# Altium footprint library Voiture-Supercapa.PcbLib: 7 footprints
Each footprint in its own frame and in the unit in brackets; x right, y up, seen from the top. Pads: shape width x height; smd on the part's side, far side on the other; paste and mask are expansions set on the pad; w line width, h text height; cw(c..) or ccw(c..) is an arc to the next point about the centre after c.
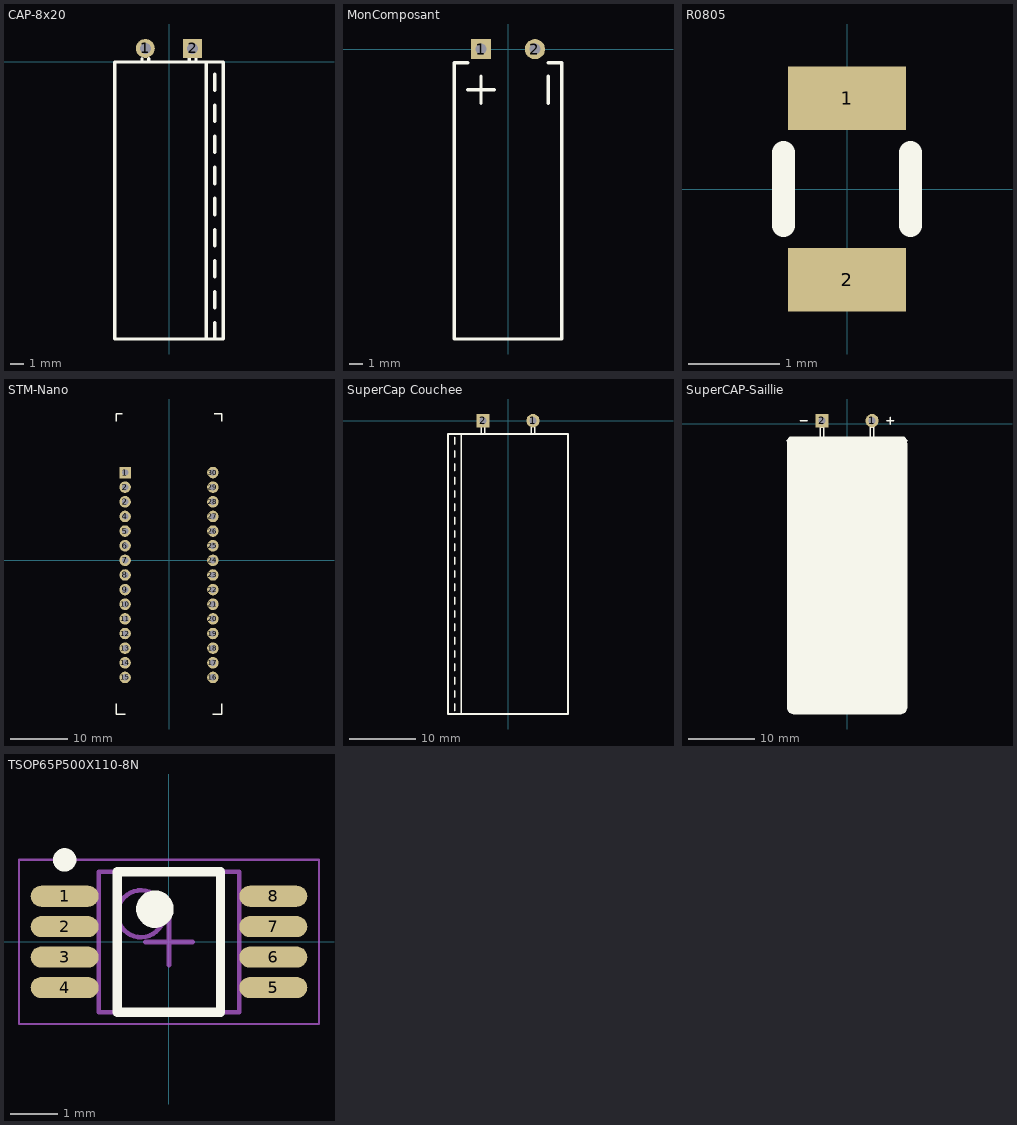
[diagram p0: the footprints below, top view; thin cyan lines are the x and y axes]

## CAP-8x20 [mm]
pads (2):
  round 1.4 hole 0.8: 1(-1.75,1)
  rect 1.4x1.4 hole 0.8: 2(1.75,1)
Top Overlay:
  lines w0.254: -2,0.25 -2,0 -1.5,0 -1.5,0.25 ; 1.5,0.25 1.5,0 2,0 2,0.25 ; 2.75,-20.5 2.75,0 ; 3.4,-20.5 3.4,-19.3 ; 3.4,-18.2 3.4,-17 ; 3.4,-15.9 3.4,-14.7 ; 3.4,-13.6 3.4,-12.4 ; 3.4,-11.3 3.4,-10.1 ; 3.4,-9 3.4,-7.8 ; 3.4,-6.7 3.4,-5.5 ; 3.4,-4.4 3.4,-3.2 ; 3.4,-2.1 3.4,-0.9 ; -4,-20.5 4,-20.5 4,0 -4,0 -4,-20.5
3D body "Cap-8x20-H.step": height 8, standoff -2.5, extent -4,-20.49 3.99,1.31

## MonComposant [mm]
pads (2):
  rect 1.5x1.5 hole 0.8 unplated: 1(-2,0)
  round 1.5 hole 0.8 unplated: 2(2,0)
Top Overlay:
  lines w0.254: -3,-3 -2,-3 ; -3,-1 -4,-1 -4,-21.5 4,-21.5 4,-1 3,-1 ; -2,-2 -2,-4 -2,-3 ; -1,-3 -2,-3 ; 3,-4 3,-2 3,-3
3D body "Cap-8x20-H.step": height 8, standoff -2.5, extent -4,-21.39 3.99,0.41

## R0805 [mm] "Resistor 0805"
pads (2):
  rect 1.3x0.7 smd: 1(0,1) 2(0,-1)
Top Overlay:
  lines w0.254: -0.7,-0.4 -0.7,0.4 ; 0.7,-0.4 0.7,0.4
3D body: height 0.2, standoff 0.1, extent -0.6,-0.9 0.6,0.9
3D body: height 0.18, standoff 0, extent -0.6,-1.1 0.6,1.1

## STM-Nano [mm]
height 12
pads (30):
  rect 2x2 hole 1.1: 1(-7.62,15.24)
  round 2 hole 1.1: 2(-7.62,10.16) 2(-7.62,12.7) 4(-7.62,7.62) 5(-7.62,5.08) 6(-7.62,2.54) 7(-7.62,0) 8(-7.62,-2.54) 9(-7.62,-5.08) 10(-7.62,-7.62) 11(-7.62,-10.16) 12(-7.62,-12.7) 13(-7.62,-15.24) 14(-7.62,-17.78) 15(-7.62,-20.32) 16(7.62,-20.32) 17(7.62,-17.78) 18(7.62,-15.24) 19(7.62,-12.7) 20(7.62,-10.16) 21(7.62,-7.62) 22(7.62,-5.08) 23(7.62,-2.54) 24(7.62,0) 25(7.62,2.54) 26(7.62,5.08) 27(7.62,7.62) 28(7.62,10.16) 29(7.62,12.7) 30(7.62,15.24)
Top Overlay:
  lines w0.254: -9.144,-24.892 -9.144,-26.67 -7.62,-26.67 ; -9.144,24.13 -9.144,25.4 -8.128,25.4 ; 7.62,-26.67 9.144,-26.67 9.144,-24.892 ; 7.874,25.4 9.144,25.4 9.144,24.13
3D body "MB1455.step": height 17.47, standoff -5.03, extent -9.271,-26.67 9.271,25.39

## SuperCap Couchee [mm]
pads (2):
  round 2 hole 1.1: 1(3.75,0)
  rect 2x2 hole 1.1: 2(-3.75,0)
Top Overlay:
  lines w0.254: -8,-43.5 -8,-42.5 ; -8,-41.5 -8,-40.5 ; -8,-39.5 -8,-38.5 ; -8,-37.5 -8,-36.5 ; -8,-35.5 -8,-34.5 ; -8,-33.5 -8,-32.5 ; -8,-31.5 -8,-30.5 ; -8,-29.5 -8,-28.5 ; -8,-27.5 -8,-26.5 ; -8,-25.5 -8,-24.5 ; -8,-23.5 -8,-22.5 ; -8,-21.5 -8,-20.5 ; -8,-19.5 -8,-18.5 ; -8,-17.5 -8,-16.5 ; -8,-15.5 -8,-14.5 ; -8,-13.5 -8,-12.5 ; -8,-11.5 -8,-10.5 ; -8,-9.5 -8,-8.5 ; -8,-7.5 -8,-6.5 ; -8,-5.5 -8,-4.5 ; -8,-3.5 -8,-2.5 ; -7,-2 -7,-44 ; -4,-2 -4,-1 ; -3.5,-2 -3.5,-1 ; 3.5,-2 3.5,-1 ; 4,-2 4,-1 ; -7,-44 9,-44 9,-2 -9,-2 -9,-44 -7,-44
3D body "Modif-Supercapa-50F.step": height 18, standoff -5, extent -8.995,-44 8.995,0.5

## SuperCAP-Saillie [mm]
pads (2):
  round 2 hole 1.1: 1(3.75,0.5)
  rect 2x2 hole 1.1: 2(-3.75,0.5)
Top Overlay:
  pour cut-out: -9,-42.5 -9,-3 -9,-2.902 -8.962,-2.708 -8.886,-2.526 -8.777,-2.363 -8.637,-2.223 -8.474,-2.114 -8.292,-2.038 -8.098,-2 -8,-2 8,-2 8.098,-2 8.292,-2.038 8.474,-2.114 8.637,-2.223 8.777,-2.363 8.886,-2.526 8.962,-2.708 9,-2.902 9,-3 9,-42.5 9,-42.598 8.962,-42.792 8.886,-42.974 8.777,-43.137 8.637,-43.277 8.474,-43.386 8.292,-43.462 8.098,-43.5 8,-43.5 -8,-43.5 -8.098,-43.5 -8.292,-43.462 -8.474,-43.386 -8.637,-43.277 -8.777,-43.137 -8.886,-42.974 -8.962,-42.792 -9,-42.598
  lines w0.254: -9.021,-2.521 -8.5,-2 8.5,-2 9,-2.5 ; -7,0.5 -6,0.5 ; -4.5,-2 -3.5,-2 -3.5,-0.5 -4,-0.5 -4,-2 ; 4,-2 4,-0.5 3.5,-0.5 3.5,-2 4.5,-2 ; 6,0.5 7,0.5 ; 6.5,0 6.5,1
3D body "Modif-Supercapa v1-saillie-rcolor.step": height 12, standoff -6, extent -8.99,-43.64 9,0.86

## TSOP65P500X110-8N [mm] "TSOP, 8-Leads, Body 3,00x2,95mm, Pitch 0,65mm, IPC Medium Density"
height 1.1
pads (8):
  oval 1.45x0.45 smd: 1(-2.225,0.975) 2(-2.225,0.325) 3(-2.225,-0.325) 4(-2.225,-0.975) 5(2.225,-0.975) 6(2.225,-0.325) 7(2.225,0.325) 8(2.225,0.975)
Top Overlay:
  circle w0.4: c-0.3,0.7 r0.2
  circle w0.25: c-2.225,1.75 r0.125
  lines w0.2: -1.1,-1.5 1.1,-1.5 1.1,1.5 -1.1,1.5 -1.1,-1.5
Mechanical 13:
  circle w0.1: c-0.6,0.6 r0.5
  lines w0.1: -1.5,-1.5 1.5,-1.5 1.5,1.5 -1.5,1.5 -1.5,-1.5
Mechanical 15:
  lines w0.05: -3.2,-1.75 3.2,-1.75 3.2,1.75 -3.2,1.75 -3.2,-1.75
  lines w0.1: -0.5,0 0.5,0 ; 0,-0.5 0,0.5
3D body "TSOP65P500X110-8N.step": height 1.1, standoff 0, extent -2.512,-1.5 2.512,1.5